# EAGLE library part 6AU6 (library wheat)
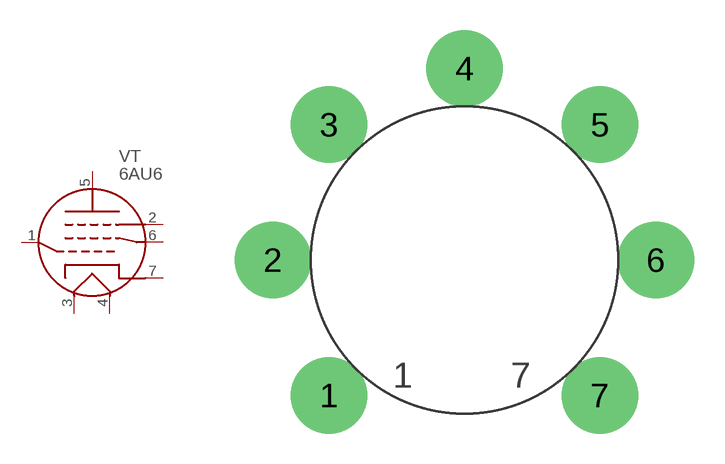
[diagram p217: symbol with the pads of MINI7_PCB_BOT; footprint MINI7_PCB_BOT]

Designator prefix VT

## 6AU6  [MINI7_PCB_BOT]
1  G1  pas
2  G3  pas
3  H1  pas
4  H2  pas
5  P  pas
6  G2  pas
7  K  pas

## Footprint MINI7_PCB_BOT (pad centres in mm)
7-pin-mini PCB socket, mounted backside
drill 1.93 pad 3.81: 1 -6.731,-6.731; 2 -9.525,0; 3 -6.731,6.731; 4 0,9.525; 5 6.731,6.731; 6 9.525,0; 7 6.731,-6.731